# Altium schematic symbol library 5-1814832-1.SchLib: 1 symbol
Pins are listed as number, name and electrical type; pins without a type are passive.

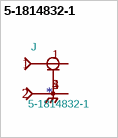
[diagram p0: symbol 5-1814832-1]

## 5-1814832-1
designator J  value 5-1814832-1
Parameter_4: TE Connectivity; Parameter_5: SMA/QMA socket 50 Ohm | TE Connectivity 518148321 _SMA/QMA socket 50 Ohm RF Connectors_.; Parameter_6: 518148321; Parameter_7: None; Parameter_8: Unavailable; Footprint: TE_5-1814832-1; Supplier: https://www.te.com/usa-en/product-518148321.html?te_bu=Cor&te_type=disp&te_campaign=seda_glo_cor-seda-global-disp-prtnr-fy19-seda-model-bom-cta_sma-317_1&elqCampaignId=32493; Parameter_9: None
footprint TE_5-1814832-1
pins: 1, 2, 3 2, 4 2, 5 2